# Altium footprint library DE-211024.PcbLib: 131 footprints (part 9 of 9)
Each footprint in its own frame and in the unit in brackets; x right, y up, seen from the top. Pads: shape width x height; smd on the part's side, far side on the other; paste and mask are expansions set on the pad; w line width, h text height; cw(c..) or ccw(c..) is an arc to the next point about the centre after c.
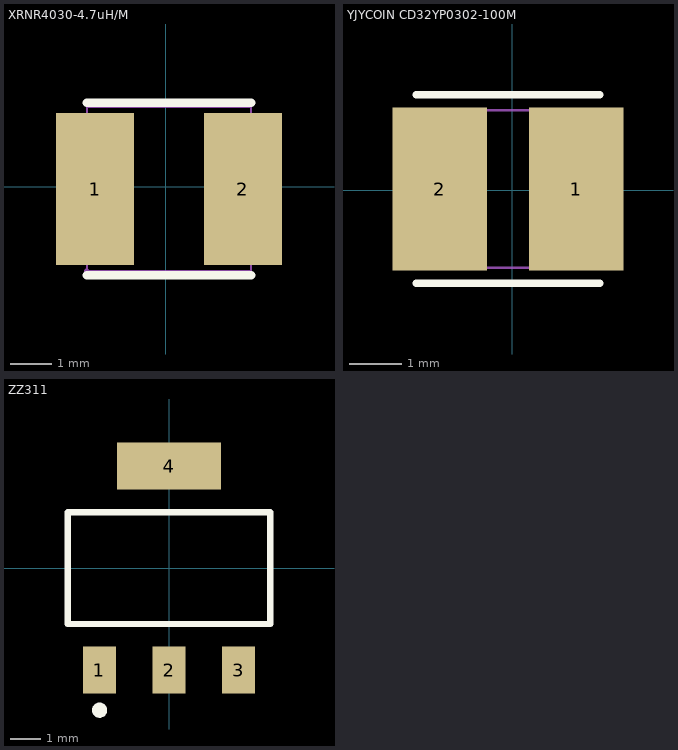
[diagram p8: the footprints below, top view; thin cyan lines are the x and y axes]

## XRNR4030-4.7uH/M [mm] "2A 4.7uH Magnetic Adhesive Inductor ±20% 2.9A SMD-2P,4x4mm Power Inductors ROHS"
pads (2):
  rect 1.9x3.7 smd paste+0 mask+0.051: 1(-1.717,-0.059) 2(1.883,-0.059)
Top Overlay:
  lines w0.203: -1.917,-2.159 2.083,-2.159 ; -1.917,2.041 2.083,2.041
Mechanical 15:
  region: -1.859,-2.059 -1.859,-2.035 -1.894,-2.001 -1.943,-2.001 -1.977,-2.035 -1.978,-2.059 -1.977,-2.083 -1.943,-2.117 -1.894,-2.117 -1.86,-2.083
  region: 2.083,1.691 2.083,-1.809 1.133,-1.809 1.133,1.691
  region: -1.917,-1.809 -1.917,1.691 -0.967,1.691 -0.967,-1.809
  lines w0.051: -1.917,-2.059 -1.917,1.941 2.083,1.941 2.083,-2.059 -1.917,-2.059

## YJYCOIN CD32YP0302-100M [mm] "1A 10uH ±20% SMD,3.5x3x2.1mm Power Inductors ROHS"
pads (2):
  rect 1.8x3.12 smd paste+0 mask+0.051: 1(1.22,0.022) 2(-1.386,0.022)
Top Overlay:
  lines w0.15: -1.833,-1.778 1.667,-1.778 ; -1.833,1.822 1.667,1.822
Mechanical 15:
  region: 1.667,-1.478 0.467,-1.478 0.467,1.522 1.667,1.522
  region: -1.833,1.522 -0.633,1.522 -0.633,-1.478 -1.833,-1.478
  region: -1.743,-1.448 -1.743,-1.423 -1.778,-1.388 -1.828,-1.388 -1.863,-1.423 -1.863,-1.448 -1.863,-1.473 -1.828,-1.508 -1.778,-1.508 -1.743,-1.473
  lines w0.051: -1.833,-1.478 1.667,-1.478 1.667,1.522 -1.833,1.522 -1.833,-1.478

## ZZ311 [mm] "SOT-223/SC-73; 4 Leads; Body 6.7 x 7.3 mm, inc. leads (LxW max)"
height 1.8
pads (4):
  rect 1.1x1.55 smd: 1(-2.3,-3.375) 2(0,-3.375) 3(2.3,-3.375)
  rect 3.45x1.55 smd: 4(0,3.375)
Top Overlay:
  circle w0.25: c-2.3,-4.7 r0.125
  lines w0.2: -3.35,-1.85 3.35,-1.85 3.35,1.85 -3.35,1.85 -3.35,-1.85